# Altium schematic symbol library ICs-Power.SchLib: 24 symbols
Pins are listed as number, name and electrical type; pins without a type are passive.

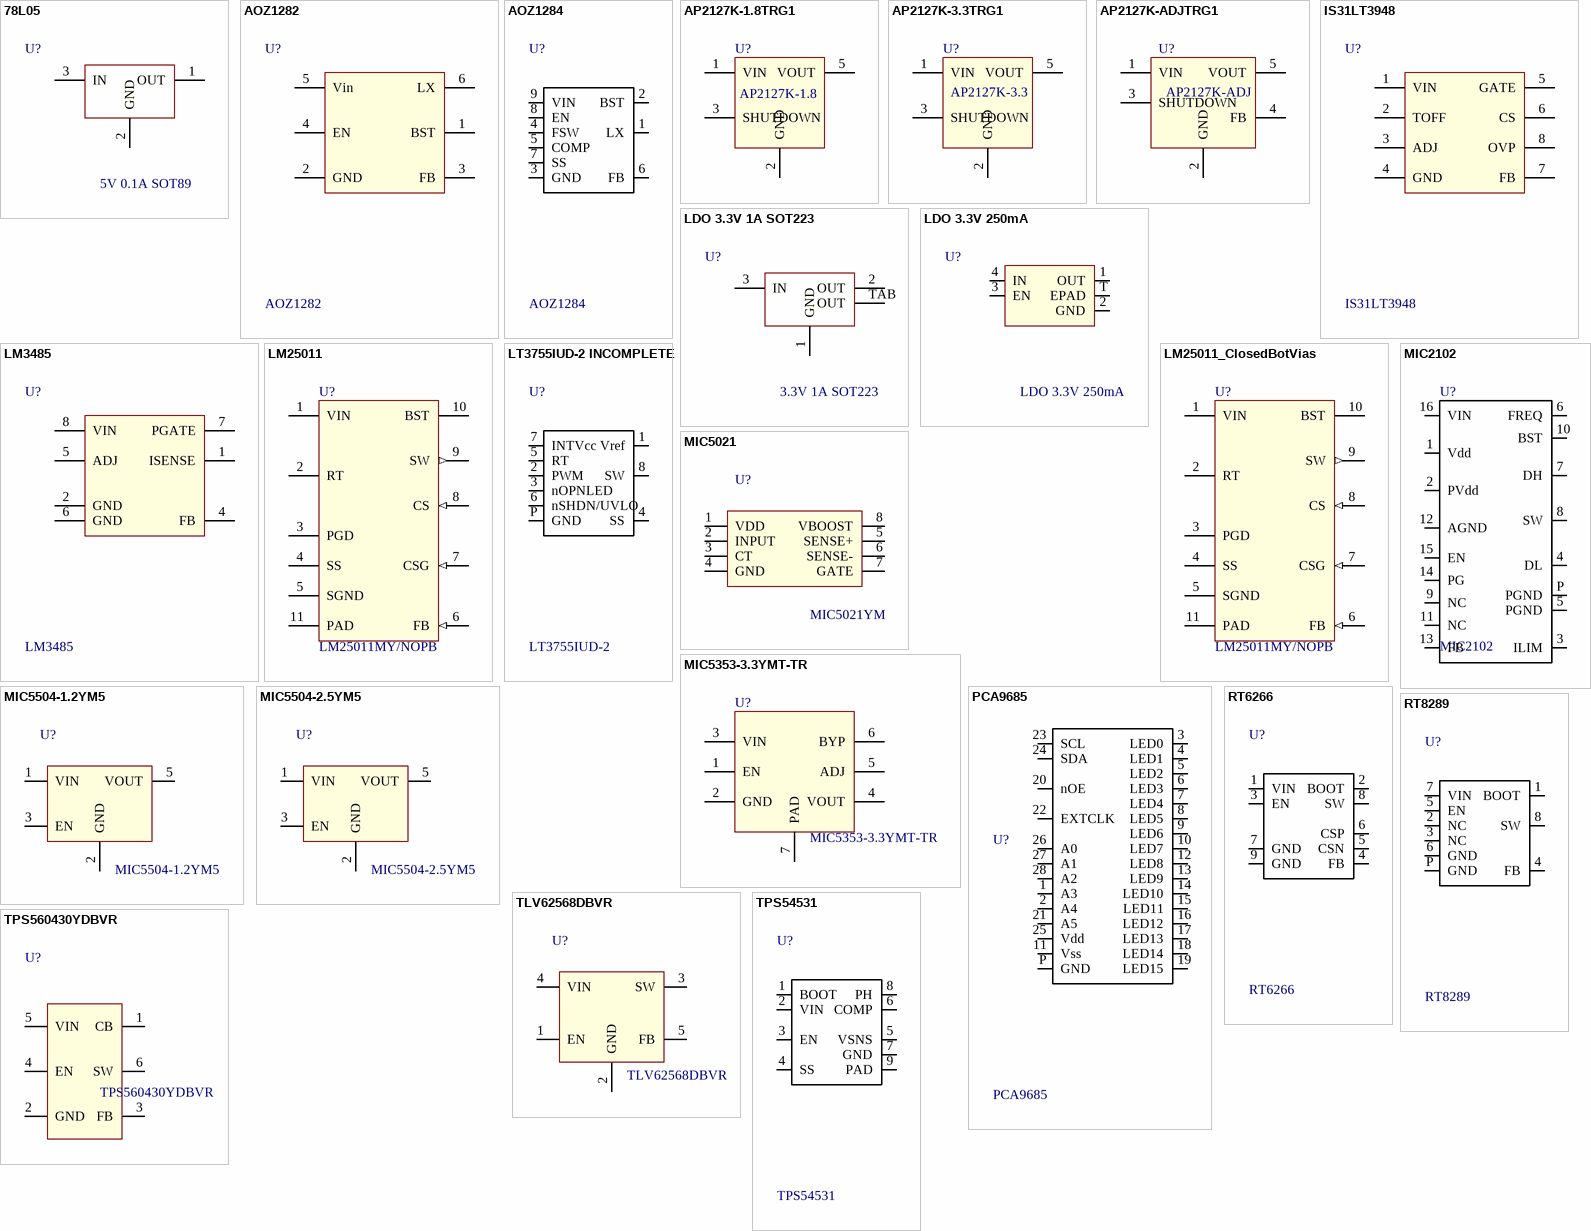
[diagram p0: symbols 78L05 to TPS560430YDBVR]

## 78L05
designator U?, comment 5V 0.1A SOT89
IC REG LINEAR 5V 100MA SOT89-3; MANUFACTURER #: L78L05ABUTR; MANUFACTURER: ST; PART DESCRIPTION: Linear Voltage Regulator IC Positive Fixed 1 Output 5V 100mA SOT-89-3; TOLERANCE: -NA-; VALUE: 5V LDO; EE_SPEC: Vin 30V, Iout 0.1A; DISTRIBUTOR #: 497-1181-2-ND; DISTRIBUTOR: Digikey; PART: IC REG LINEAR 5V 100MA SOT89-3
footprint SOT-89-3
pins: 1 OUT (power), 2 GND (power), 3 IN (power)

## AOZ1282
designator U?
IC REG BUCK ADJ 1.2A SOT23-6; MANUFACTURER #: AOZ1282CI; MANUFACTURER: Alpha & Omega; PART DESCRIPTION: Buck Switching Regulator IC Positive Adjustable 0.8V 1 Output 1.2A SOT-23-6; TOLERANCE: -NA-; EE_SPEC: Vin_max 36V, 1.2A, Adj out, 450kHz; VALUE: AOZ1282; DISTRIBUTOR #: 785-1613-1-ND; DISTRIBUTOR: Digikey; PART: AOZ1282
footprint SOT23-6 SML
pins: 1 BST, 2 GND, 3 FB, 4 EN, 5 Vin, 6 LX

## AOZ1284
designator U?
IC REG BUCK ADJ 4A 8SO; MANUFACTURER #: AOZ1284PI; MANUFACTURER: Alpha & Omega; PART DESCRIPTION: Buck Switching Regulator IC Positive Adjustable 0.8V 1 Output 4A 8-SOIC (0.154", 3.90mm Width) Exposed Pad; EE_SPEC: Vin_max 36V, Iout 4A; VALUE: AOZ1284; DISTRIBUTOR #: 785-1689-2-ND; DISTRIBUTOR: Digikey; PART: AOZ1284
footprint SOIC8-TPAD
pins: 1 LX, 2 BST, 3 GND, 4 FSW, 5 COMP, 6 FB, 7 SS, 8 EN, 9 VIN

## AP2127K-1.8TRG1
designator U?, comment AP2127K-1.8
LDO 1.8V 0.3A SOT25
footprint SOT23-5P285X140-5L (SOT26, 6-Leads, Body 3.00x2.85mm, Pitch 0.95mm, IPC High Density)
pins: 1 VIN (power), 2 GND (power), 3 SHUTDOWN (power), 5 VOUT (power)

## AP2127K-3.3TRG1
designator U?, comment AP2127K-3.3
LDO 3.3V 0.3A SOT25
footprint SOT23-5P285X140-5L (SOT26, 6-Leads, Body 3.00x2.85mm, Pitch 0.95mm, IPC High Density)
pins: 1 VIN (power), 2 GND (power), 3 SHUTDOWN (power), 5 VOUT (power)

## AP2127K-ADJTRG1
designator U?, comment AP2127K-ADJ
LDO 3.3V 0.3A SOT25; MANUFACTURER: Diodes; PART: AP2127K-ADJTRG1; PART DESCRIPTION: *Linear Voltage Regulator IC Positive Adjustable 1 Output  300mA SOT-23-5
footprint SOT23-5P285X140-5L (SOT26, 6-Leads, Body 3.00x2.85mm, Pitch 0.95mm, IPC High Density)
pins: 1 VIN (power), 2 GND (power), 3 SHUTDOWN (power), 4 FB (power), 5 VOUT (power)

## IS31LT3948
designator U?
IC LED DRIVER CTRLR DIM 8SOP; MANUFACTURER #: IS31LT3948-GRLS2-TR; MANUFACTURER: ISSI; PART DESCRIPTION: LED Driver IC 1 Output DC DC Controller Step-Up (Boost) PWM Dimming 8-SOP; TOLERANCE: -NA-; EE_SPEC: 100Vmax 20k-200kHz Boost Controller; VALUE: IS31LT3948; DISTRIBUTOR #: 706-1157-2-ND; DISTRIBUTOR: Digikey; PART: IS31LT3948
footprint SOIC8 (SOIC, 8-Leads, Body 4.90x3.90mm, Pitch 1.27mm, IPC Medium Density)
pins: 1 VIN, 2 TOFF, 3 ADJ, 4 GND, 5 GATE, 6 CS, 7 FB, 8 OVP

## LDO 3.3V 1A SOT223
designator U?, comment 3.3V 1A SOT223
IC REG LDO 3.3V 1A SOT223; MANUFACTURER #: AZ1117EH-3.3TRG1; MANUFACTURER: Diodes Inc; PART DESCRIPTION: Linear Voltage Regulator IC Positive Fixed Output 3.3V 1A SOT-223; TOLERANCE: -NA-; VALUE: 3.3V LDO; DISTRIBUTOR #: AZ1117EH-3.3TRG1DITR-ND; DISTRIBUTOR: Digikey; PART: IC REG LDO 3.3V 1A SOT223; EE_SPEC: 1A
footprint SOT223_AZ1117 (Made for Diodes Inc AZ1117 Vreg)
pins: 1 GND (power), 2 OUT (power), 3 IN (power), TAB OUT (power)

## LDO 3.3V 250mA
designator U?
IC REG LINEAR 3.3V 250MA 4XDFN; MANUFACTURER #: NCP160AMX330TBG; MANUFACTURER: On Semi; PART DESCRIPTION: Linear Voltage Regulator IC Positive Fixed 1 Output 3.3V 250mA 4-XDFN (1x1); TOLERANCE: -NA-; DISTRIBUTOR #: NCP160AMX330TBGOSTR-ND; DISTRIBUTOR: Digikey; PART: IC REG LINEAR 3.3V 250MA 4XDFN; VALUE: LDO 3.3V 250mA; EE_SPEC: 250mA
footprint XDFN4 1X1
pins: 1 OUT (power), 2 GND (power), 3 EN (power), 4 IN (power), T EPAD (power)

## LM3485
designator U?
IC REG CTRLR BUCK 8VSSOP; MANUFACTURER #: LM3485MM/NOPB; MANUFACTURER: TI; PART DESCRIPTION: Buck Regulator Positive Output Step-Down DC-DC Controller IC 8-VSSOP; TOLERANCE: -NA-; EE_SPEC: 35Vin_max, Hysteretic; VALUE: LM3485; DISTRIBUTOR #: LM3485MM/NOPBTR-ND; DISTRIBUTOR: Digikey; PART: LM3485
footprint VSSOP-8
pins: 1 ISENSE, 2 GND, 4 FB, 5 ADJ, 6 GND, 7 PGATE, 8 VIN

## LM25011
designator U?, comment LM25011MY/NOPB
REG BUCK; MANUFACTURER: Texas Instruments; PART: IC VREG BUCK ADJ 2A 10MSOP; PART DESCRIPTION: Buck Switching Regulator IC Positive Adjustable 2.51V 1 Output 2A 10-TFSOP, 10-MSOP (0.118", 3.00mm Width) Exposed Pad; TOLERANCE: -NA-; EE_SPEC: 2A 42Vin_max; VALUE: LM25011MY/NOPB; MANUFACTURER #: LM25011MY/NOPB; DISTRIBUTOR #: LM25011MY/NOPBTR-ND; DISTRIBUTOR: Digikey
footprint VSSOP10 (TSSOP, 10-Leads, Body 3.15x3.00mm, Pitch 0.50mm, Thermal Pad 2.05.2x1.50.2mm, IPC High Density)
pins: 1 VIN (power), 2 RT (power), 3 PGD (power), 4 SS (power), 5 SGND (power), 6 FB (in), 7 CSG (in), 8 CS (in), 9 SW (out), 10 BST (power), 11 PAD (power)

## LM25011_ClosedBotVias
designator U?, comment LM25011MY/NOPB
REG BUCK; MANUFACTURER: Texas Instruments; PART: IC VREG BUCK ADJ 2A 10MSOP; PART DESCRIPTION: Buck Switching Regulator IC Positive Adjustable 2.51V 1 Output 2A 10-TFSOP, 10-MSOP (0.118", 3.00mm Width) Exposed Pad; TOLERANCE: -NA-; EE_SPEC: 2A 42Vin_max; VALUE: LM25011MY/NOPB; MANUFACTURER #: LM25011MY/NOPB; DISTRIBUTOR #: LM25011MY/NOPBTR-ND; DISTRIBUTOR: Digikey
footprint VSSOP10_ClosedBotVias (TSSOP, 10-Leads, Body 3.15x3.00mm, Pitch 0.50mm, Thermal Pad 2.05.2x1.50.2mm, IPC High Density)
pins: 1 VIN (power), 2 RT (power), 3 PGD (power), 4 SS (power), 5 SGND (power), 6 FB (in), 7 CSG (in), 8 CS (in), 9 SW (out), 10 BST (power), 11 PAD (power)

## LT3755IUD-2 INCOMPLETE
designator U?, comment LT3755IUD-2
IC LED DRIVER CTRLR DIM 16QFN; MANUFACTURER #: LT3755IUD-2#PBF; MANUFACTURER: Linear Tech; PART DESCRIPTION: LED Driver IC 1 Output DC DC Controller Flyback, SEPIC, Step-Down (Buck), Step-Up (Boost) Analog, PWM Dimming 16-QFN-EP (3x3); TOLERANCE: -NA-; VALUE: LT3755IUD-2; DISTRIBUTOR #: LT3755IUD-2#PBF-ND; DISTRIBUTOR: Digikey; PART: IC LED DRIVER CTRLR DIM 16QFN
footprint QFN16_3X3_ALT
pins: 1 Vref, 2 PWM, 3 nOPNLED, 4 SS, 5 RT, 6 nSHDN/UVLO, 7 INTVcc, 8 SW, P GND

## MIC2102
designator U?
IC REG CTRLR BUCK 16MLF; MANUFACTURER #: MIC2102YML-TR; MANUFACTURER: Microchip; PART DESCRIPTION: Buck Regulator Positive Output Step-Down DC-DC Controller IC 16-MLF® (3x3); TOLERANCE: -NA-; EE_SPEC: 4.5-38Vin; 0.8-24Vout; 15Aout max; VALUE: MIC2102; DISTRIBUTOR #: 576-4155-1-ND; DISTRIBUTOR: Digikey; PART: IC REG CTRLR BUCK 16MLF
footprint QFN16_3X3
pins: 1 Vdd, 2 PVdd, 3 ILIM, 4 DL, 5 PGND, 6 FREQ, 7 DH, 8 SW, 9 NC, 10 BST, 11 NC, 12 AGND, 13 FB, 14 PG, 15 EN, 16 VIN, P PGND

## MIC5021
designator U?, comment MIC5021YM
High-Side Gate Driver IC Non-Inverting 8-SOIC; MANUFACTURER: Microchip; TOLERANCE: -NA-; MANUFACTURER #: MIC5021YM; PART: MIC5021YM; PART DESCRIPTION: High-Side Gate Driver IC Non-Inverting 8-SOIC; VALUE: MIC5021YM
footprint SOIC8 (SOIC, 8-Leads, Body 4.90x3.90mm, Pitch 1.27mm, IPC Medium Density)
pins: 1 VDD (power) "1", 2 INPUT (power) "1", 3 CT (power) "1", 4 GND (power) "1", 5 SENSE+ (power) "1", 6 SENSE- (power) "1", 7 GATE (power) "1", 8 VBOOST (power) "1"

## MIC5353-3.3YMT-TR
designator U?
LDO 3.3V 500mA - low ESR Cout; MANUFACTURER: Microchip; PART: IC REG LDO 3.3V 0.5A 6TMLF; PART DESCRIPTION: Linear Voltage Regulator IC Positive Fixed 1 Output 3.3V 500mA 6-TMLF® (1.6x1.6); TOLERANCE: -NA-; VALUE: 3.3V LDO; MANUFACTURER #: MIC5353-3.3YMT-TR; DISTRIBUTOR #: 576-3680-2-ND; DISTRIBUTOR: Digikey; EE_SPEC: 500mA
footprint TDFN1616-6LD-PL-1 (1.6mmx1.6mm)
pins: 1 EN (power), 2 GND (power), 3 VIN (power), 4 VOUT (power), 5 ADJ (power), 6 BYP (power), 7 PAD (power)

## MIC5504-1.2YM5
designator U?
IC REG LINEAR 1.2V 300MA SOT23-5; MANUFACTURER #: MIC5504-1.2YM5-TR; MANUFACTURER: Microchip; PART DESCRIPTION: Linear Voltage Regulator IC  1 Output  300mA SOT-23-5; TOLERANCE: -NA-; PART: MIC5504-1.2YM5-TR; VALUE: MIC5504-1.2YM5
footprint SOT23-5
pins: 1 VIN (power) "1", 2 GND (power) "1", 3 EN (power) "1", 5 VOUT (power) "1"

## MIC5504-2.5YM5
designator U?
IC REG LINEAR 2.5V 300MA SOT23-5; MANUFACTURER #: MIC5504-2.5YM5-TR; MANUFACTURER: Microchip; PART DESCRIPTION: Linear Voltage Regulator IC  1 Output  300mA SOT-23-5; TOLERANCE: -NA-; PART: MIC5504-2.5YM5-TR; VALUE: MIC5504-2.5YM5
footprint SOT23-5
pins: 1 VIN (power) "1", 2 GND (power) "1", 3 EN (power) "1", 5 VOUT (power) "1"

## PCA9685
designator U?
IC LED DRVR LIN DIM 25MA 28HVQFN; MANUFACTURER #: PCA9685BS,118; MANUFACTURER: NXP; PART DESCRIPTION: LED Driver IC 16 Output Linear PWM Dimming 25mA 28-HVQFN (6x6); TOLERANCE: -NA-; EE_SPEC: 5V 16Chan I2C; VALUE: PCA9685; DISTRIBUTOR #: 568-5305-2-ND; DISTRIBUTOR: Digikey; PART: IC LED DRVR LIN DIM 25MA 28HVQFN
footprint HVQFN28
pins: 1 A3, 2 A4, 3 LED0, 4 LED1, 5 LED2, 6 LED3, 7 LED4, 8 LED5, 9 LED6, 10 LED7, 11 Vss, 12 LED8, 13 LED9, 14 LED10, 15 LED11, 16 LED12, 17 LED13, 18 LED14, 19 LED15, 20 nOE, 21 A5, 22 EXTCLK, 23 SCL, 24 SDA, 25 Vdd, 26 A0, 27 A1, 28 A2, P GND

## RT6266
designator U?
IC REG BUCK ADJ 2.4A SYNC 8SOP; MANUFACTURER #: RT6266GSP; MANUFACTURER: Richtek; PART DESCRIPTION: Buck Switching Regulator IC Positive Adjustable 0.8V 1 Output 2.4A 8-SOIC (0.154", 3.90mm Width) Exposed Pad; EE_SPEC: Vin_max 36V, 2.4A, 100kHz; VALUE: RT6266; DISTRIBUTOR #: 1028-1399-1-ND; DISTRIBUTOR: Digikey; PART: RT6266
footprint SOP8_EP2
pins: 1 VIN, 2 BOOT, 3 EN, 4 FB, 5 CSN, 6 CSP, 7 GND, 8 SW, 9 GND

## RT8289
designator U?
IC REG BUCK ADJ 5A 8SOP; MANUFACTURER #: RT8289GSP; MANUFACTURER: Richtek; PART DESCRIPTION: Buck Switching Regulator IC Positive Adjustable 1.222V 1 Output 5A 8-SOIC (0.154", 3.90mm Width) Exposed Pad; TOLERANCE: -NA-; EE_SPEC: 32Vin 5Aout; VALUE: RT8289; DISTRIBUTOR #: 1028-1046-1-ND; DISTRIBUTOR: Digikey; PART: IC REG BUCK ADJ 5A 8SOP
footprint SOP8_EP
pins: 1 BOOT, 2 NC, 3 NC, 4 FB, 5 EN, 6 GND, 7 VIN, 8 SW, P GND

## TLV62568DBVR
designator U?
IC REG BUCK ADJ 1A SOT23-5; MANUFACTURER: TI; PART DESCRIPTION: Buck Switching Regulator IC Positive Adjustable 0.6V 1 Output 1A SC-74A, SOT-753; TOLERANCE: -NA-; MANUFACTURER #: TLV62568DBVR; PART: TLV62568DBVR; VALUE: TLV62568DBVR
footprint SOT23-5
pins: 1 EN (power) "1", 2 GND (power) "1", 3 SW (power) "1", 4 VIN (power) "1", 5 FB (power) "1"

## TPS54531
designator U?
IC REG BUCK ADJ 5A 8SOPWRPAD; MANUFACTURER #: TPS54531DDAR; MANUFACTURER: TI; PART DESCRIPTION: Buck Switching Regulator IC Positive Adjustable 0.8V 1 Output 5A 8-PowerSOIC (0.154", 3.90mm Width); EE_SPEC: 28Vin_max, 5A, 570kHz; VALUE: TPS54531; DISTRIBUTOR #: 296-40801-2-ND; DISTRIBUTOR: Digikey; PART: TPS54531
footprint SOIC8-TPAD
pins: 1 BOOT, 2 VIN, 3 EN, 4 SS, 5 VSNS, 6 COMP, 7 GND, 8 PH, 9 PAD

## TPS560430YDBVR
designator U?
Buck Switching Regulator IC Positive PFM 1V 1 Output 600mA SOT-23-6; MANUFACTURER: TI; EE_SPEC: Vin 4-36V, Iout 0.6A; MANUFACTURER #: TPS560430YDBVR; PART: TPS560430YDBVR; PART DESCRIPTION: Buck Switching Regulator IC Positive PFM 1V 1 Output 600mA SOT-23-6
footprint SOT23-6 SML
pins: 1 CB (power) "1", 2 GND (power) "1", 3 FB (power) "1", 4 EN (power) "1", 5 VIN (power) "1", 6 SW (power) "1"